# Altium footprint library xbreak.PcbLib: 22 footprints (part 2 of 2)
Each footprint in its own frame and in the unit in brackets; x right, y up, seen from the top. Pads: shape width x height; smd on the part's side, far side on the other; paste and mask are expansions set on the pad; w line width, h text height; cw(c..) or ccw(c..) is an arc to the next point about the centre after c.
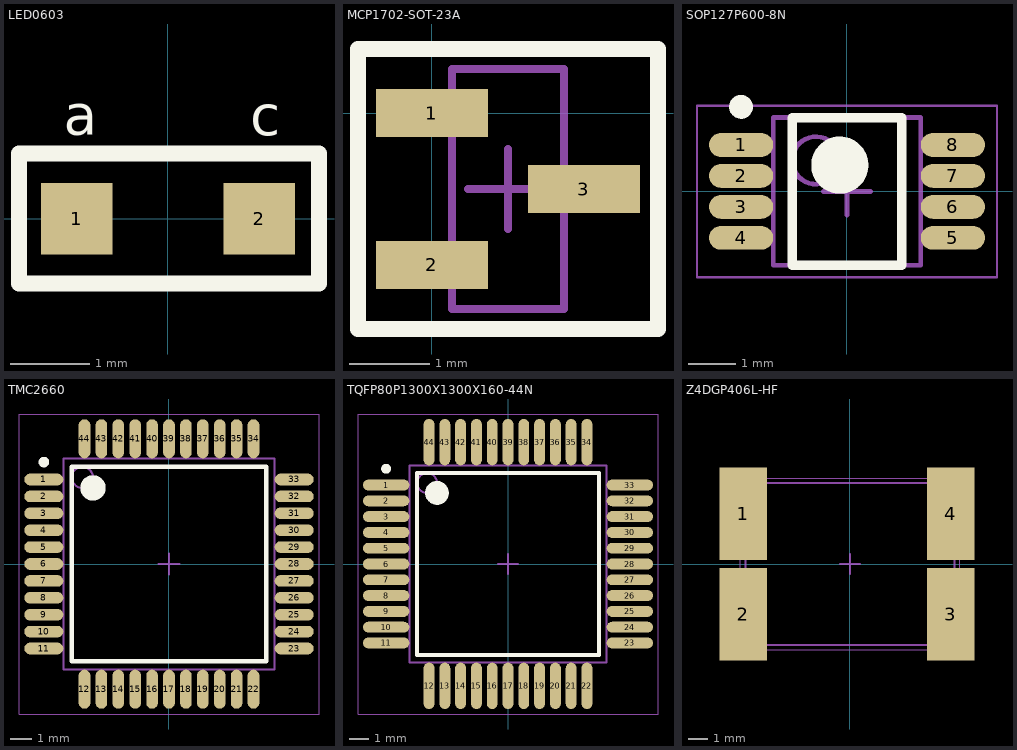
[diagram p1: the footprints below, top view; thin cyan lines are the x and y axes]

## LED0603 [mm]
pads (2):
  rect 0.9x0.9 smd: 1(-1.15,0) 2(1.15,0)
Top Overlay:
  lines w0.2: -1.875,-0.819 -1.875,0.819 1.904,0.819 1.904,-0.819 -1.875,-0.819
  text "a" at -1.313,1.058 h0.51
  text "c" at 1.037,1.051 h0.51

## MCP1702-SOT-23A [mm]
height 1.45
pads (3):
  rect 1.4x0.6 smd: 1(0,0) 2(0,-1.9) 3(1.9,-0.95)
Top Overlay:
  lines w0.2: -0.925,-2.7 -0.925,0.8 2.825,0.8 2.825,-2.7 -0.925,-2.7
Mechanical 13:
  lines w0.1: 0.25,-2.45 1.65,-2.45 1.65,0.55 0.25,0.55 0.25,-2.45
Mechanical 15:
  lines w0.1: 0.45,-0.95 1.45,-0.95 ; 0.95,-1.45 0.95,-0.45 ; -0.925,-2.7 -0.925,0.8 2.825,0.8 2.825,-2.7 -0.925,-2.7
3D body: height 1.07, standoff -0.03, extent -0.3,-2.45 2.2,0.55

## SOP127P600-8N [mm]
height 1.1
pads (8):
  oval 1.35x0.5 smd: 1(-2.225,0.975) 2(-2.225,0.325) 3(-2.225,-0.325) 4(-2.225,-0.975) 5(2.225,-0.975) 6(2.225,-0.325) 7(2.225,0.325) 8(2.225,0.975)
Top Overlay:
  circle w0.25: c-2.225,1.775 r0.125
  circle w0.6: c-0.15,0.55 r0.3
  lines w0.2: -1.15,-1.55 -1.15,1.55 1.15,1.55 1.15,-1.55 -1.15,-1.55
Mechanical 13:
  circle w0.1: c-0.65,0.65 r0.5
  lines w0.1: -1.55,-1.55 -1.55,1.55 1.55,1.55 1.55,-1.55 -1.55,-1.55
Mechanical 15:
  lines w0.05: -3.15,-1.8 -3.15,1.8 3.15,1.8 3.15,-1.8 -3.15,-1.8
  lines w0.1: -0.5,0 0.5,0 ; 0,-0.5 0,0.5
3D body: height 1.1, standoff 0.15, extent -1.55,-1.55 1.55,1.55

## TMC2660 [mm] "TQFP, 44-Leads, Body 10.00x10.00mm, Pitch 0.80mm, IPC Medium Density"
height 1.6
pads (44):
  oval 1.85x0.55 smd: 1(-5.925,4) 2(-5.925,3.2) 3(-5.925,2.4) 4(-5.925,1.6) 5(-5.925,0.8) 6(-5.925,0) 7(-5.925,-0.8) 8(-5.925,-1.6) 9(-5.925,-2.4) 10(-5.925,-3.2) 11(-5.925,-4) 23(5.925,-4) 24(5.925,-3.2) 25(5.925,-2.4) 26(5.925,-1.6) 27(5.925,-0.8) 28(5.925,0) 29(5.925,0.8) 30(5.925,1.6) 31(5.925,2.4) 32(5.925,3.2) 33(5.925,4)
  oval 0.55x1.85 smd: 12(-4,-5.925) 13(-3.2,-5.925) 14(-2.4,-5.925) 15(-1.6,-5.925) 16(-0.8,-5.925) 17(0,-5.925) 18(0.8,-5.925) 19(1.6,-5.925) 20(2.4,-5.925) 21(3.2,-5.925) 22(4,-5.925) 34(4,5.925) 35(3.2,5.925) 36(2.4,5.925) 37(1.6,5.925) 38(0.8,5.925) 39(0,5.925) 40(-0.8,5.925) 41(-1.6,5.925) 42(-2.4,5.925) 43(-3.2,5.925) 44(-4,5.925)
Top Overlay:
  circle w0.6: c-3.6,3.6 r0.3
  circle w0.25: c-5.925,4.825 r0.125
  lines w0.2: -4.6,-4.6 4.6,-4.6 4.6,4.6 -4.6,4.6 -4.6,-4.6
Mechanical 13:
  circle w0.1: c-4.1,4.1 r0.5
  lines w0.1: -5,-5 5,-5 5,5 -5,5 -5,-5
Mechanical 15:
  lines w0.05: -7.1,-7.1 7.1,-7.1 7.1,7.1 -7.1,7.1 -7.1,-7.1
  lines w0.1: -0.5,0 0.5,0 ; 0,-0.5 0,0.5
3D body: height 1.6, standoff 0.2, extent -5,-5 5,5

## TQFP80P1300X1300X160-44N [mm] "TQFP, 44-Leads, Body 10.00x10.00mm, Pitch 0.80mm, IPC Medium Density"
height 1.6
pads (44):
  oval 2.35x0.55 smd: 1(-6.175,4) 2(-6.175,3.2) 3(-6.175,2.4) 4(-6.175,1.6) 5(-6.175,0.8) 6(-6.175,0) 7(-6.175,-0.8) 8(-6.175,-1.6) 9(-6.175,-2.4) 10(-6.175,-3.2) 11(-6.175,-4) 23(6.175,-4) 24(6.175,-3.2) 25(6.175,-2.4) 26(6.175,-1.6) 27(6.175,-0.8) 28(6.175,0) 29(6.175,0.8) 30(6.175,1.6) 31(6.175,2.4) 32(6.175,3.2) 33(6.175,4)
  oval 0.55x2.35 smd: 12(-4,-6.175) 13(-3.2,-6.175) 14(-2.4,-6.175) 15(-1.6,-6.175) 16(-0.8,-6.175) 17(0,-6.175) 18(0.8,-6.175) 19(1.6,-6.175) 20(2.4,-6.175) 21(3.2,-6.175) 22(4,-6.175) 34(4,6.175) 35(3.2,6.175) 36(2.4,6.175) 37(1.6,6.175) 38(0.8,6.175) 39(0,6.175) 40(-0.8,6.175) 41(-1.6,6.175) 42(-2.4,6.175) 43(-3.2,6.175) 44(-4,6.175)
Top Overlay:
  circle w0.25: c-6.175,4.825 r0.125
  circle w0.6: c-3.6,3.6 r0.3
  lines w0.2: -4.6,-4.6 -4.6,4.6 4.6,4.6 4.6,-4.6 -4.6,-4.6
Mechanical 13:
  circle w0.1: c-4.1,4.1 r0.5
  lines w0.1: -5,-5 -5,5 5,5 5,-5 -5,-5
Mechanical 15:
  lines w0.05: -7.6,-7.6 -7.6,7.6 7.6,7.6 7.6,-7.6 -7.6,-7.6
  lines w0.1: -0.5,0 0.5,0 ; 0,-0.5 0,0.5
3D body: height 1.6, standoff 0.2, extent -5,-5 5,5

## Z4DGP406L-HF [mm] "DFN, 4-Leads, Body 8.10x10.50mm, Pitch 10.50mm, IPC Medium Density"
height 1.55
pads (4):
  rect 2.4x4.7 smd: 1(-5.4,2.55) 2(-5.4,-2.55) 3(5.1,-2.55) 4(5.1,2.55)
Top Overlay:
  circle w0.1: c-5.3,4.5 r0.05
Mechanical 13:
  lines w0.1: -5.3,-4.1 -5.3,4.1 5.3,4.1 5.3,-4.1 -5.3,-4.1
Mechanical 15:
  lines w0.05: -5.55,-4.35 -5.55,4.35 5.55,4.35 5.55,-4.35 -5.55,-4.35
  lines w0.1: -0.5,0 0.5,0 ; 0,-0.5 0,0.5
3D body: height 1.55, standoff 0, extent -5.3,-4.1 5.3,4.1